# Altium footprint library Spectro.PcbLib: 37 footprints (part 1 of 3)
Each footprint in its own frame and in the unit in brackets; x right, y up, seen from the top. Pads: shape width x height; smd on the part's side, far side on the other; paste and mask are expansions set on the pad; w line width, h text height; cw(c..) or ccw(c..) is an arc to the next point about the centre after c.
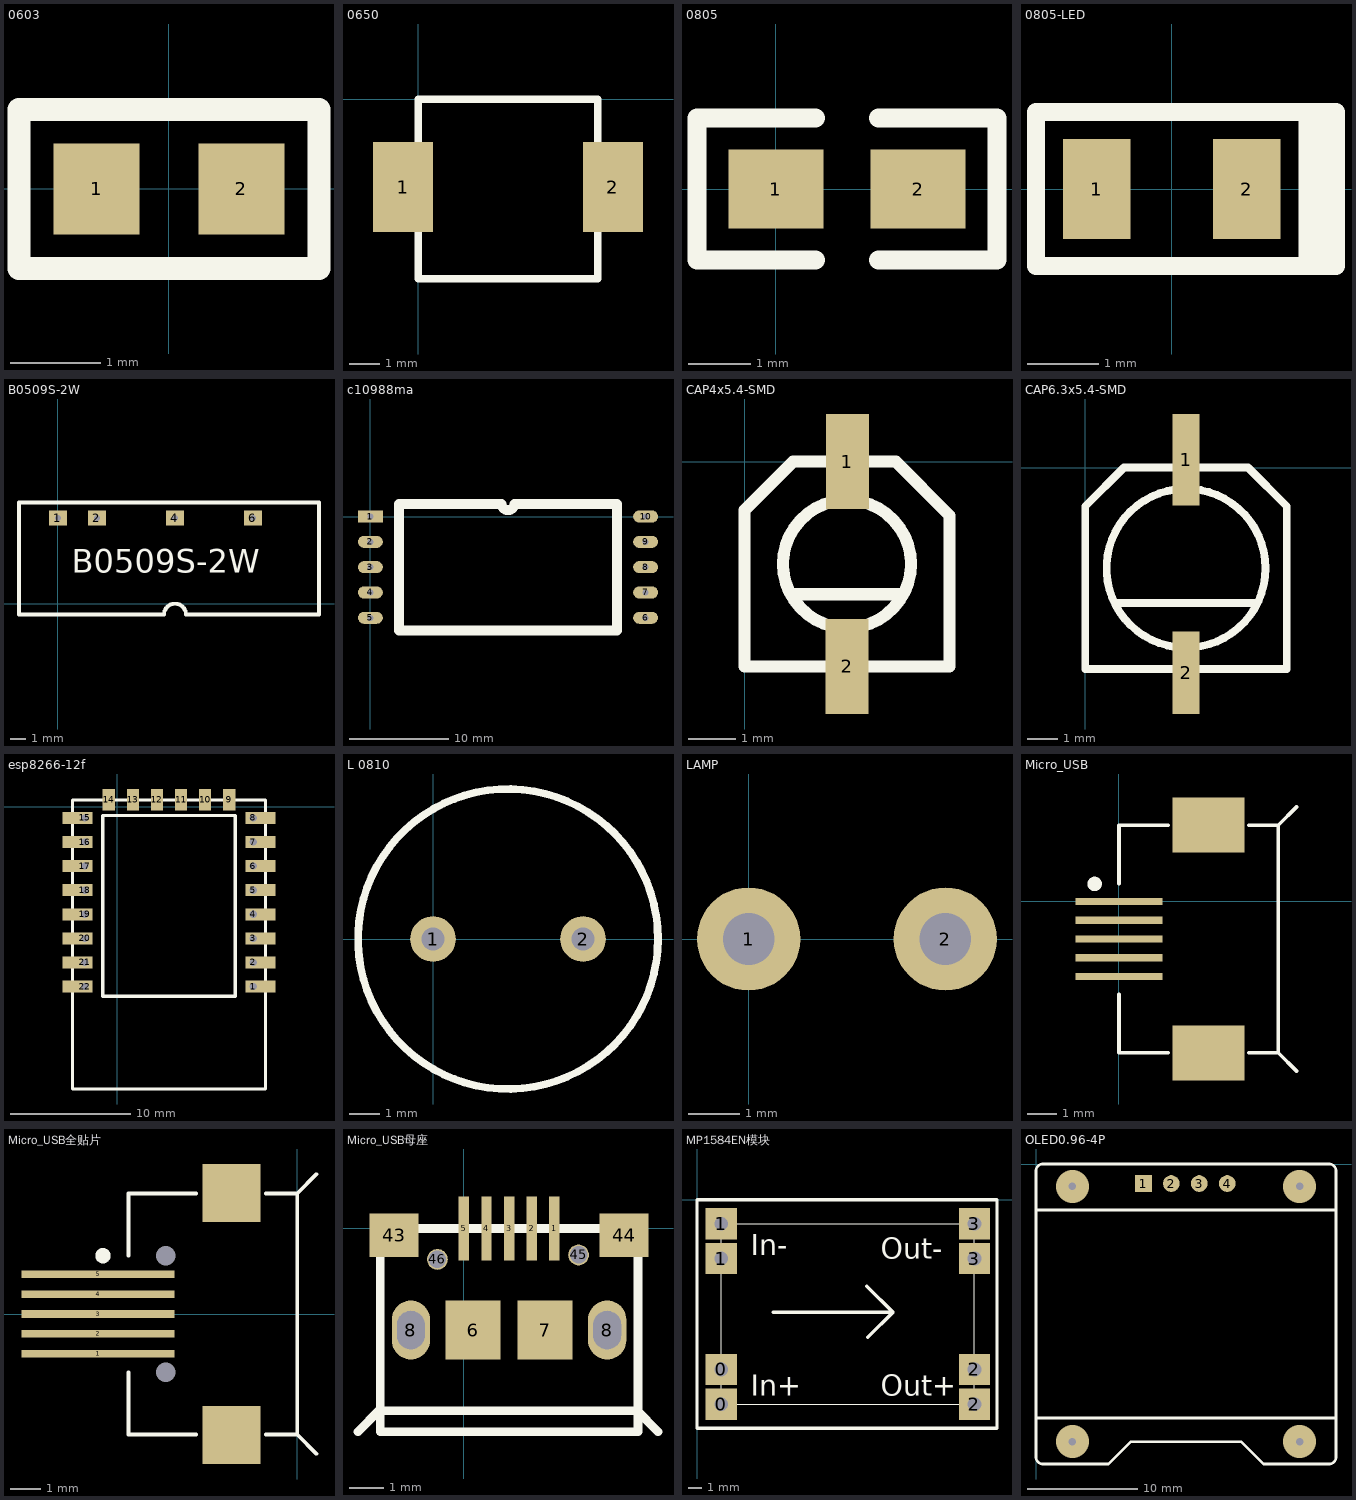
[diagram p0: the footprints below, top view; thin cyan lines are the x and y axes]

## 0603 [mm] "SMD, 0603"
height 0.45
pads (2):
  rect 0.95x1 smd: 1(-0.8,0) 2(0.8,0)
Top Overlay:
  lines w0.254: -1.656,-0.88 1.656,-0.88 1.656,0.88 -1.656,0.88 -1.656,-0.88
3D body "RES0603.STEP": height 0.45, standoff 0, extent -0.775,-0.425 0.775,0.425

## 0650 [mm] "贴片电感6*6*5，33uH 3A"
height 4
pads (2):
  rect 2x3 smd: 1(-0.5,-2.921) 2(6.477,-2.921)
Top Overlay:
  lines w0.254: 0,-5.969 5.969,-5.969 5.969,0 0,0 0,-5.969

## 0805 [mil]
pads (2):
  rect 60x50 smd: 1(0,0) 2(90,0)
Top Overlay:
  lines w12: 25,-45 -50,-45 -50,45 25,45 ; 65,-45 140,-45 140,45 65,45

## 0805-LED [mm] "LED, SMD, 0805"
height 0.8
pads (2):
  rect 0.95x1.4 smd: 1(-1.05,0) 2(1.05,0)
Top Overlay:
  lines w0.254: 1.9,-1.08 1.9,1.08 ; 2.1,-1.08 2.1,1.08 ; -1.9,-1.08 -1.9,1.08 2.3,1.08 2.3,-1.08 -1.9,-1.08
3D body "LED-0805.STEP": height 0.85, standoff 0.01, extent -1.03,-0.455 1.032,0.451

## B0509S-2W [mm]
pads (4):
  rect 1.2x1 hole 0.4 square: 1(0,5.588) 2(2.54,5.588) 4(7.62,5.588) 6(12.7,5.588)
Top Overlay:
  lines w0.254: -2.54,-0.7 -2.54,6.604 7.856,6.604 17,6.604 17,-0.7 8.331,-0.7 ccw(c7.62,-0.7) 6.909,-0.7 -2.5,-0.7
  text "B0509S-2W" at 0.889,2.032 h1.52

## c10988ma [mm]
height 15
pads (10):
  rect 2.5x1.2 hole 0.6: 1(0,0)
  oval 2.5x1.2 hole 0.6: 2(0,-2.54) 3(0,-5.08) 4(0,-7.62) 5(0,-10.16) 6(27.6,-10.16) 7(27.6,-7.62) 8(27.6,-5.08) 9(27.6,-2.54) 10(27.6,0)
Top Overlay:
  lines w1: 2.885,-11.43 24.715,-11.43 24.715,1.27 14.435,1.27 cw(c13.8,1.27) 13.165,1.27 2.885,1.27 2.885,-11.43

## CAP4x5.4-SMD [mm] "贴片铝电解电容 4.7uF/16V"
pads (2):
  rect 0.9x2 smd: 1(2.159,0) 2(2.15,-4.3)
Top Overlay:
  circle w0.254: c2.15,-2.15 r1.344
  lines w0.254: 1.016,-2.785 3.302,-2.785 ; 0,-4.3 0,-1.016 1.016,0 3.18,0 4.3,-1.128 4.3,-4.3 0,-4.3

## CAP6.3x5.4-SMD [mm] "贴片铝电解电容"
pads (2):
  rect 0.9x3 smd: 1(3.302,0.254)
  rect 0.9x2.7 smd: 2(3.302,-6.731)
Top Overlay:
  circle w0.254: c3.302,-3.302 r2.606
  lines w0.254: 1.016,-4.445 5.588,-4.445 ; 0,-6.604 0,-1.27 1.27,0 5.334,0 6.604,-1.27 6.604,-6.604 0,-6.604

## esp8266-12f [mm]
pads (22):
  rect 2.5x1 hole 0.6 copper offset 0.6,0: 1(11.303,-14.922) 2(11.303,-12.922) 3(11.303,-10.922) 4(11.303,-8.922) 5(11.303,-6.922) 6(11.303,-4.922) 7(11.303,-2.922) 8(11.303,-0.922)
  rect 1x1.8 all layers, no hole: 9(9.303,0.578) 10(7.303,0.578) 11(5.303,0.578) 12(3.303,0.578) 13(1.303,0.578) 14(-0.697,0.578)
  rect 2.5x1 hole 0.6 copper offset -0.6,0: 15(-2.697,-0.922) 16(-2.697,-2.922) 17(-2.697,-4.922) 18(-2.697,-6.922) 19(-2.697,-8.922) 20(-2.697,-10.922) 21(-2.697,-12.922) 22(-2.697,-14.922)
Top Overlay:
  lines w0.254: 12.303,-2.596 12.303,0.578 ; 12.303,0.578 4.303,0.578 -3.697,0.578 -3.697,-23.422 12.303,-23.422 12.303,0.578 ; -1.197,-15.722 9.803,-15.722 9.803,-0.722 -1.197,-0.722 -1.197,-15.722

## L 0810 [mil] "电感4.7mH 100mA 8Ω"
height 590.55
pads (2):
  round 60 hole 30: 1(0,0) 2(196.85,0)
Top Overlay:
  circle w10: c98.43,0 r196.85

## LAMP [mm]
pads (2):
  round 2 hole 1: 1(0,0) 2(3.81,0)

## Micro_USB [mm] "5P 贴片 带定位柱"
pads (7):
  rect 3x0.25 smd: 1(0,0) 2(0,-0.65) 3(0,-1.3) 4(0,-1.95) 5(0,-2.6)
  rect 2.5x1.9 smd: ""(3.095,-5.237) ""(3.095,2.637)
Top Overlay:
  circle w0.25: c-0.84,0.605 r0.125
  lines w0.127: 0,-5.237 1.698,-5.237 ; 0,-5.2 0,-3.205 ; 0,0.605 0,2.6 ; 0,2.637 1.698,2.637 ; 4.492,-5.237 5.508,-5.237 6.138,-5.867 ; 4.492,2.637 5.508,2.637 6.138,3.267 ; 5.508,-5.2 5.508,2.6

## Micro_USB全贴片 [mm]
pads (9):
  rect 5x0.25 smd: 1(-6.508,-1.3) 2(-6.508,-0.65) 3(-6.508,0) 4(-6.508,0.65) 5(-6.508,1.3)
  round 0 hole 0.635 unplated: MH1(-4.3,1.9) MH2(-4.3,-1.9)
  rect 1.9x1.9 smd: ""(-2.15,-3.95) ""(-2.15,3.95)
Top Overlay:
  circle w0.25: c-6.348,1.905 r0.125
  lines w0.127: -5.508,-3.937 -3.302,-3.937 ; -5.508,-3.9 -5.508,-1.905 ; -5.508,1.905 -5.508,3.9 ; -5.508,3.937 -3.302,3.937 ; -1.016,-3.937 0,-3.937 0.63,-4.567 ; -1.016,3.937 0,3.937 0.63,4.567 ; 0,-3.9 0,3.9

## Micro_USB母座 [mm] "2脚插板5.9长针有柱/有边 https://item.taobao.com/item.htm?id=623766777172&ali_refid=a3_430582_1006:1123013631:N:km9xO7al86n1ThXSVb8Hi57aLuR6nGI3:fa88222264bd8c7f08b6b99c3f8fe859&ali_trackid=1_fa88222264bd8c7f08b6b99c3f8fe859&spm=a230r.1.14.1#detail"
height 1.86
pads (13):
  rect 0.3x1.85 smd: 1(2.6,0) 2(1.95,0) 3(1.3,0) 4(0.65,0) 5(0,0)
  rect 1.575x1.7 smd: 6(0.262,-2.925) 7(2.338,-2.925)
  oval 1.1x1.7 hole 0.8 slot 1.1 at 90 deg: 8(-1.525,-2.925) 8(4.125,-2.925)
  rect 1.4x1.25 smd: 43(-2.01,-0.2) 44(4.61,-0.2)
  round 0.6 hole 0.5: 45(3.302,-0.762) 46(-0.762,-0.889)
Top Overlay:
  lines w0.254: -3.048,-5.85 -2.448,-5.25 ; -2.41,-5.25 4.988,-5.25 5.588,-5.85 ; -2.41,-5.845 -2.41,0 5.01,0 5.01,-5.85 -2.405,-5.85 -2.41,-5.845

## MP1584EN模块 [mm]
pads (8):
  rect 2.3x2.3 hole 1: 0(1.778,-14.986) 0(1.778,-12.446) 1(1.778,-4.318) 1(1.778,-1.778) 2(20.32,-14.986) 2(20.32,-12.446) 3(20.32,-4.318) 3(20.32,-1.778)
Top Overlay:
  lines w0.05: 1.778,-14.986 20.32,-14.986 20.32,-1.778 1.778,-1.778 1.778,-14.986
  lines w0.254: 5.588,-8.255 14.351,-8.255 ; 12.446,-6.35 14.351,-8.255 ; 12.509,-10.096 14.351,-8.255 ; 0,-16.764 0,0 21.971,0 21.971,-16.764 0,-16.764
  text "Out+" at 13.462,-14.351 h1.52
  text "Out-" at 13.462,-4.318 h1.52
  text "In+" at 3.937,-14.351 h1.52
  text "In-" at 3.937,-4.064 h1.52

## OLED0.96-4P [mil]
pads (4):
  rect 60x60 smd: 1(385,-70)
  round 60 smd: 2(485,-70) 3(585,-70) 4(685,-70)
via 130,-80 diameter 118.11 hole 28
via 130,-995 diameter 118.11 hole 28
via 945,-995 diameter 118.11 hole 28
via 945,-80 diameter 118.11 hole 28
Top Overlay:
  lines w10: 0,-165 1075,-165 ; 259.84,-1075 25,-1075 cw(c25,-1050) 0,-1050 ; 260,-1075 340,-995 735,-995 815,-1075 1050,-1075 ccw(c1050,-1050) 1075,-1050 1075,-25 ccw(c1050,-25) 1050,0 25,0 ccw(c25,-25) 0,-25 0,-1050 ; 1075,-910 0,-910 0,-1050